# EAGLE library part POT-ALPS_RK09L12D0A1W (library Rebel)
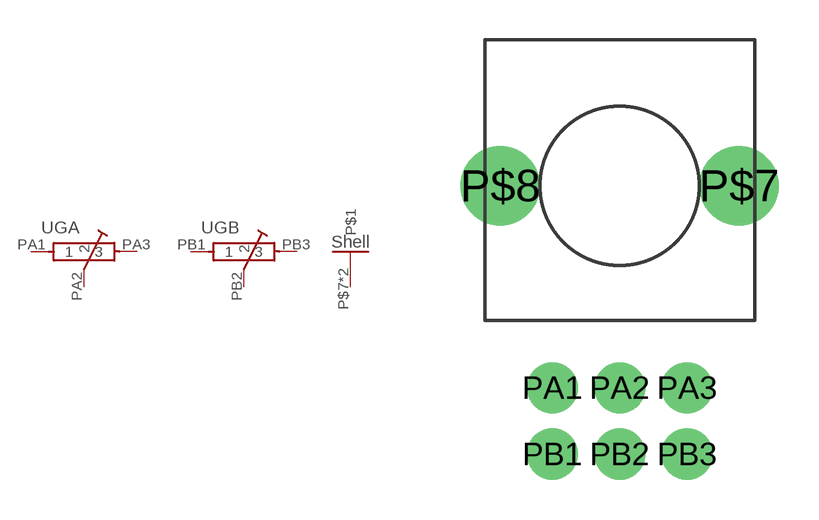
[diagram p27: symbol with the pads of POT-ALPS-RK09L12D0A1W; footprint POT-ALPS-RK09L12D0A1W]

Designator prefix -; gates G$3=POTSHELL GA=POT-ALPS-RK09L GB=POT-ALPS-RK09L

## POT-ALPS_RK09L12D0A1W  [POT-ALPS-RK09L12D0A1W]
P$7  G$3:P$1
P$8  G$3:P$1
PA1  GA:1
PA2  GA:2
PA3  GA:3
PB1  GB:1
PB2  GB:2
PB3  GB:3

## Footprint POT-ALPS-RK09L12D0A1W (pad centres in mm)
drill 2: P$7 4.5,0; P$8 -4.5,0
drill 1 pad 1.93: PA1 -2.54,-7.62; PA2 0,-7.62; PA3 2.54,-7.62; PB1 -2.54,-10.12; PB2 0,-10.12; PB3 2.54,-10.12